# Altium footprint library AUDIO_MIC_SPK.PcbLib: 21 footprints (part 1 of 2)
Each footprint in its own frame and in the unit in brackets; x right, y up, seen from the top. Pads: shape width x height; smd on the part's side, far side on the other; paste and mask are expansions set on the pad; w line width, h text height; cw(c..) or ccw(c..) is an arc to the next point about the centre after c.
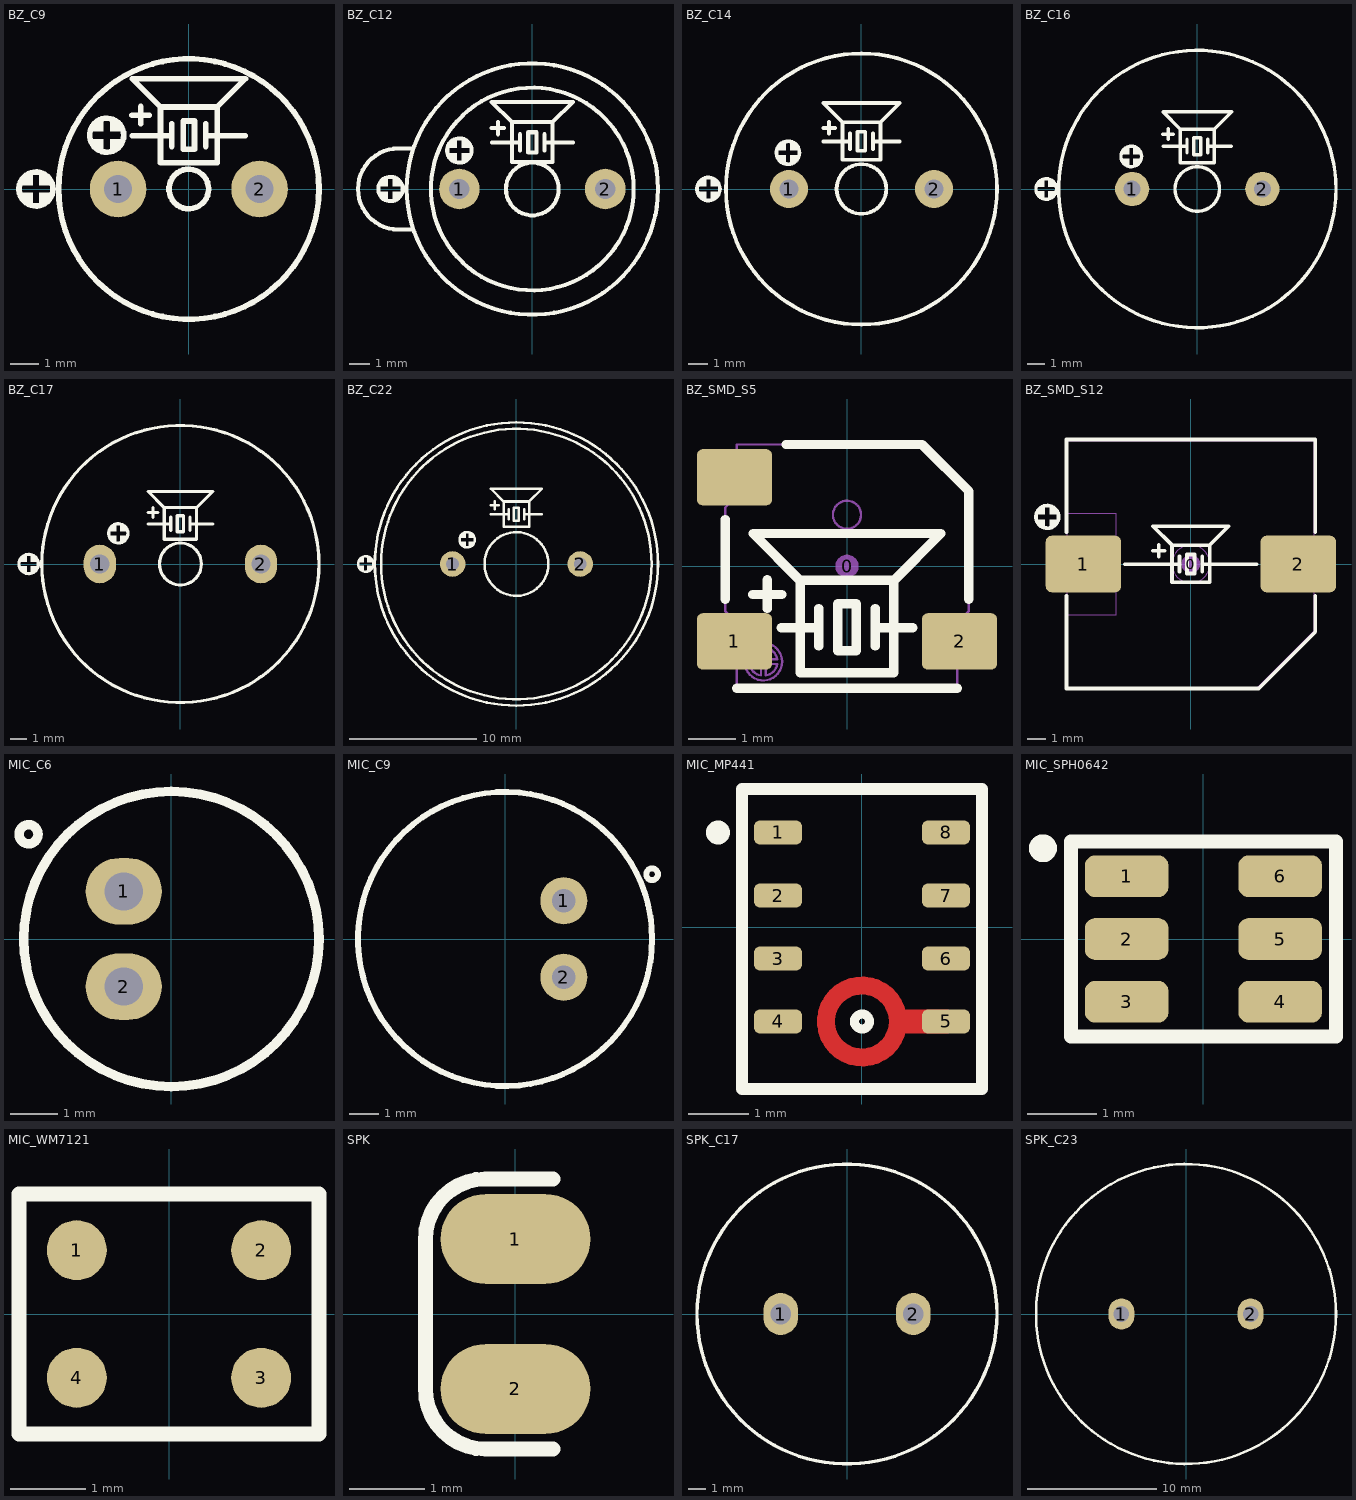
[diagram p0: the footprints below, top view; thin cyan lines are the x and y axes]

## BZ_C9 [mm] "BUZZER 9mm DIA, 7.62mm pitch"
pads (2):
  round 2 hole 1: 1(-2.5,0) 2(2.5,0)
Top Overlay:
  circle w0.2: c-2.9,1.9 r0.6
  circle w0.2: c0,0 r0.7
  circle w0.2: c0,0 r4.6
  circle w0.2: c-5.4,0 r0.6
  rectangle: -3.4,2.027 -3.012,2.4
  rectangle: -3.4,1.4 -3.012,1.773
  region: -2.4,1.773 -2.788,1.773 -2.788,1.4 -2.4,1.4
  region: -2.4,2.4 -2.788,2.4 -2.788,2.027 -2.4,2.027
  region: -4.9,0.5 -5.288,0.5 -5.288,0.127 -4.9,0.127
  region: -4.9,-0.127 -5.288,-0.127 -5.288,-0.5 -4.9,-0.5
  rectangle: -5.9,-0.5 -5.512,-0.127
  rectangle: -5.9,0.127 -5.512,0.5
  lines w0.2: -2.007,2.6 -1.393,2.6 ; -2,1.886 -0.6,1.886 ; -1.7,2.3 -1.7,2.914 ; -0.6,1.5 -0.6,2.3 ; 0.6,1.5 0.6,2.3 ; 0.6,1.886 2,1.886 ; -1,2.9 1,2.9 ; -1,2.9 -1,0.929 1,0.929 1,2.9 ; -1,2.9 -2.002,3.9 2.002,3.9 1,2.9 ; -0.2,1.4 -0.2,2.4 0.2,2.4 0.2,1.4 -0.2,1.4
3D body "User Library-Buzzer_9mm.STEP": height 5.6, standoff -5.4, extent -4.55,-4.55 4.55,4.55

## BZ_C12 [mm] "BUZZER 12mm DIA, 8.5mm Height , 7.62mm pitch"
pads (2):
  round 2 hole 1: 1(-3.6,0) 2(3.6,0)
Top Overlay:
  circle w0.2: c-7,0 r0.6
  circle w0.2: c0,0 r6.2
  circle w0.2: c0,0 r5
  circle w0.2: c0,0 r1.3
  circle w0.2: c-3.6,1.9 r0.6
  rectangle: -7.5,0.127 -7.112,0.5
  rectangle: -7.5,-0.5 -7.112,-0.127
  region: -6.5,-0.127 -6.888,-0.127 -6.888,-0.5 -6.5,-0.5
  region: -6.5,0.5 -6.888,0.5 -6.888,0.127 -6.5,0.127
  region: -3.1,2.4 -3.488,2.4 -3.488,2.027 -3.1,2.027
  region: -3.1,1.773 -3.488,1.773 -3.488,1.4 -3.1,1.4
  rectangle: -4.1,1.4 -3.712,1.773
  rectangle: -4.1,2.027 -3.712,2.4
  lines w0.2: -5.9,-2 -6.6,-2 cw(c-6.6,0) -6.6,2 -5.9,2 ; -2.007,3 -1.393,3 ; -2,2.286 -0.6,2.286 ; -1.7,2.7 -1.7,3.314 ; -0.6,1.9 -0.6,2.7 ; 0.6,1.9 0.6,2.7 ; 0.6,2.286 2,2.286 ; -1,3.3 -2.002,4.3 2.002,4.3 1,3.3 ; -1,3.3 -1,1.329 1,1.329 1,3.3 ; -1,3.3 1,3.3 ; -0.2,1.8 0.2,1.8 0.2,2.8 -0.2,2.8 -0.2,1.8
3D body "User Library-Buzzer CEM-1205C.step": height 9.5, standoff -3.5, extent -6,-5.997 6,5.997

## BZ_C14 [mm] "BUZZER 14mm DIA, 6mm Height , 7.62mm pitch"
pads (2):
  round 2 hole 1: 1(-3.8,0) 2(3.8,0)
Top Overlay:
  circle w0.2: c-3.854,1.9 r0.6
  circle w0.2: c0,0 r1.3
  circle w0.2: c0,0 r7.1
  circle w0.2: c-8.016,0 r0.6
  rectangle: -4.354,2.027 -3.966,2.4
  rectangle: -4.354,1.4 -3.966,1.773
  region: -3.354,1.773 -3.742,1.773 -3.742,1.4 -3.354,1.4
  region: -3.354,2.4 -3.742,2.4 -3.742,2.027 -3.354,2.027
  region: -7.516,0.5 -7.904,0.5 -7.904,0.127 -7.516,0.127
  region: -7.516,-0.127 -7.904,-0.127 -7.904,-0.5 -7.516,-0.5
  rectangle: -8.516,-0.5 -8.128,-0.127
  rectangle: -8.516,0.127 -8.128,0.5
  lines w0.2: -2.007,3.2 -1.393,3.2 ; -2,2.486 -0.6,2.486 ; -1.7,2.9 -1.7,3.514 ; -0.6,2.1 -0.6,2.9 ; 0.6,2.1 0.6,2.9 ; 0.6,2.486 2,2.486 ; -1,3.5 1,3.5 ; -1,3.5 -1,1.529 1,1.529 1,3.5 ; -1,3.5 -2.002,4.5 2.002,4.5 1,3.5 ; -0.2,2 -0.2,3 0.2,3 0.2,2 -0.2,2
3D body "User Library-Buzzer14mm.step": height 7.35, standoff -3.1, extent -7,-7 7,7

## BZ_C16 [mm] "BUZZER 16mm DIA, 14mm Height , 7.62mm pitch"
pads (2):
  round 2 hole 1: 1(-3.8,0) 2(3.8,0)
Top Overlay:
  circle w0.2: c-8.816,0 r0.6
  circle w0.2: c0,0 r8.1
  circle w0.2: c0,0 r1.3
  circle w0.2: c-3.854,1.9 r0.6
  rectangle: -9.316,0.127 -8.928,0.5
  rectangle: -9.316,-0.5 -8.928,-0.127
  region: -8.316,-0.127 -8.704,-0.127 -8.704,-0.5 -8.316,-0.5
  region: -8.316,0.5 -8.704,0.5 -8.704,0.127 -8.316,0.127
  region: -3.354,2.4 -3.742,2.4 -3.742,2.027 -3.354,2.027
  region: -3.354,1.773 -3.742,1.773 -3.742,1.4 -3.354,1.4
  rectangle: -4.354,1.4 -3.966,1.773
  rectangle: -4.354,2.027 -3.966,2.4
  lines w0.2: -2.007,3.2 -1.393,3.2 ; -2,2.486 -0.6,2.486 ; -1.7,2.9 -1.7,3.514 ; -0.6,2.1 -0.6,2.9 ; 0.6,2.1 0.6,2.9 ; 0.6,2.486 2,2.486 ; -1,3.5 -2.002,4.5 2.002,4.5 1,3.5 ; -1,3.5 -1,1.529 1,1.529 1,3.5 ; -1,3.5 1,3.5 ; -0.2,2 0.2,2 0.2,3 -0.2,3 -0.2,2
3D body "CMT-1614C-120.stp": height 13.5, standoff -7.5, extent -7.996,-8 8,8

## BZ_C17 [mm] "BUZZER 17mm DIA, 4.6mm Height , 10mm pitch"
pads (2):
  oval 2x2.4 hole 1.2: 1(-5,0) 2(5,0)
Top Overlay:
  circle w0.2: c-3.854,1.9 r0.6
  circle w0.2: c0,0 r1.3
  circle w0.2: c0,0 r8.6
  circle w0.2: c-9.416,0 r0.6
  rectangle: -4.354,2.027 -3.966,2.4
  rectangle: -4.354,1.4 -3.966,1.773
  region: -3.354,1.773 -3.742,1.773 -3.742,1.4 -3.354,1.4
  region: -3.354,2.4 -3.742,2.4 -3.742,2.027 -3.354,2.027
  region: -8.916,0.5 -9.304,0.5 -9.304,0.127 -8.916,0.127
  region: -8.916,-0.127 -9.304,-0.127 -9.304,-0.5 -8.916,-0.5
  rectangle: -9.916,-0.5 -9.528,-0.127
  rectangle: -9.916,0.127 -9.528,0.5
  lines w0.2: -2.007,3.2 -1.393,3.2 ; -2,2.486 -0.6,2.486 ; -1.7,2.9 -1.7,3.514 ; -0.6,2.1 -0.6,2.9 ; 0.6,2.1 0.6,2.9 ; 0.6,2.486 2,2.486 ; -1,3.5 1,3.5 ; -1,3.5 -1,1.529 1,1.529 1,3.5 ; -1,3.5 -2.002,4.5 2.002,4.5 1,3.5 ; -0.2,2 -0.2,3 0.2,3 0.2,2 -0.2,2
3D body "CEP-1153.stp": height 7.7, standoff -3.4, extent -8.5,-8.5 8.5,8.5

## BZ_C22 [mm] "BUZZER, BUZZER 22mm DIA,"
pads (2):
  round 2 hole 1: 1(-5,0) 2(5,0)
Top Overlay:
  circle w0.2: c0,0 r2.5
  circle w0.2: c0,0 r10.6
  circle w0.2: c0,0 r11.1
  circle w0.2: c-3.854,1.9 r0.6
  circle w0.2: c-11.816,0 r0.6
  rectangle: -4.354,2.027 -3.966,2.4
  rectangle: -4.354,1.4 -3.966,1.773
  region: -3.354,1.773 -3.742,1.773 -3.742,1.4 -3.354,1.4
  region: -3.354,2.4 -3.742,2.4 -3.742,2.027 -3.354,2.027
  region: -11.316,0.5 -11.704,0.5 -11.704,0.127 -11.316,0.127
  region: -11.316,-0.127 -11.704,-0.127 -11.704,-0.5 -11.316,-0.5
  rectangle: -12.316,-0.5 -11.928,-0.127
  rectangle: -12.316,0.127 -11.928,0.5
  lines w0.2: -2.007,4.6 -1.393,4.6 ; -2,3.886 -0.6,3.886 ; -1.7,4.3 -1.7,4.914 ; -0.6,3.5 -0.6,4.3 ; 0.6,3.5 0.6,4.3 ; 0.6,3.886 2,3.886 ; -1,4.9 1,4.9 ; -1,4.9 -1,2.929 1,2.929 1,4.9 ; -1,4.9 -2.002,5.9 2.002,5.9 1,4.9 ; -0.2,3.4 -0.2,4.4 0.2,4.4 0.2,3.4 -0.2,3.4
3D body "User Library-PKM22EPP-4001.step": height 8.9, standoff -1.8, extent -11,-11 11,11

## BZ_SMD_S5 [mm] "Buzzer SMD sealed 5.0 L x 5.0 W x 2.0mm H 5Vp"
height 2.2
pads (4):
  round 0.5 on Mech15: 0(0,0)
  rrect20% 1.6x1.2 smd: 1(-2.4,-1.6) 2(2.4,-1.6) ""(-2.4,1.9)
Top Overlay:
  lines w0.2: -2.6,-0.7 -2.6,1 ; -2.35,-2.6 2.35,-2.6 ; -2.007,-0.6 -1.393,-0.6 ; -1.7,-0.9 -1.7,-0.286 ; -1.4,-1.314 -0.6,-1.314 ; -1.3,2.6 1.6,2.6 2.6,1.6 2.6,-0.7 ; -0.6,-1.7 -0.6,-0.9 ; 0.6,-1.7 0.6,-0.9 ; 0.6,-1.314 1.4,-1.314 ; -1,-0.3 1,-0.3 ; -1,-0.3 -1,-2.271 1,-2.271 1,-0.3 ; -1,-0.3 -2.002,0.7 2.002,0.7 1,-0.3 ; -0.2,-1.8 -0.2,-0.8 0.2,-0.8 0.2,-1.8 -0.2,-1.8
Mechanical 13:
  circle w0.05: c0,1.1 r0.3
  circle w0.05: c-1.784,-2.034 r0.4
  lines w0.05: -2.65,-1.95 -2.65,-1.25 ; -2.65,1.55 -2.65,2.25 ; -2.35,-1.95 -2.75,-1.95 -2.75,-1.25 -2.35,-1.25 ; -2.35,1.55 -2.75,1.55 -2.75,2.25 -2.35,2.25 ; 2.35,-1.95 2.75,-1.95 2.75,-1.25 2.35,-1.25 ; 2.65,-1.95 2.65,-1.25 ; -2.6,-0.95 -2.6,1.25 -2.35,1.5 -2.35,2.6 1.6,2.6 2.6,1.6 2.6,-0.95 2.35,-1.2 2.35,-2.6 -2.35,-2.6 -2.35,-1.2 -2.6,-0.95 ; -2.08,-2.084 ccw(c-1.784,-2.034) -1.834,-2.33 -1.834,-2.084 -2.08,-2.084 ; -2.08,-1.984 cw(c-1.784,-2.034) -1.834,-1.739 -1.834,-1.984 -2.08,-1.984 ; -1.734,-2.33 ccw(c-1.784,-2.034) -1.489,-2.084 -1.734,-2.084 -1.734,-2.33 ; -1.734,-1.984 -1.489,-1.984 ccw(c-1.784,-2.034) -1.734,-1.739 -1.734,-1.984
3D body "Buzzer SMT28 series.STEP": height 2, standoff 0, extent -2.75,-2.6 2.75,2.6

## BZ_SMD_S12 [mm] "Buzzer SMD sealed 12.8 L x 12.8 W x 7.6mm H 5Vp, CT-1205-SMT"
height 7.6
pads (3):
  round 1 on Mech15: 0(0,0)
  rrect20% 4x3 smd: 1(-5.7,0) 2(5.7,0)
Top Overlay:
  circle w0.2: c-7.616,2.5 r0.6
  rectangle: -8.116,2.627 -7.728,3
  rectangle: -8.116,2 -7.728,2.373
  region: -7.116,2.373 -7.504,2.373 -7.504,2 -7.116,2
  region: -7.116,3 -7.504,3 -7.504,2.627 -7.116,2.627
  lines w0.2: -6.6,-1.7 -6.6,-6.6 3.6,-6.6 6.6,-3.6 6.6,-1.7 ; -6.6,1.7 -6.6,6.6 6.6,6.6 6.6,1.7 ; -3.5,-0.014 -0.6,-0.014 ; -2.007,0.7 -1.393,0.7 ; -1.7,0.4 -1.7,1.014 ; -0.6,-0.4 -0.6,0.4 ; 0.6,-0.4 0.6,0.4 ; 0.6,-0.014 3.5,-0.014 ; -1,1 -2.002,2 2.002,2 1,1 ; -1,1 -1,-0.971 1,-0.971 1,1 ; -1,1 1,1 ; -0.2,-0.5 0.2,-0.5 0.2,0.5 -0.2,0.5 -0.2,-0.5
Mechanical 13:
  circle w0.05: c0,0 r1
  lines w0.05: -6.65,-1.15 -6.65,1.15 ; -6.55,-2.7 -3.95,-2.7 -3.95,2.7 -6.55,2.7 ; -6.55,-1.15 -7.15,-1.15 -7.15,1.15 -6.55,1.15 ; 6.55,-1.15 7.15,-1.15 7.15,1.15 6.55,1.15 ; 6.65,-1.15 6.65,1.15 ; -6.55,-6.55 -6.55,6.55 6.55,6.55 6.55,-3.55 3.55,-6.55 -6.55,-6.55
3D body "CT-1205-SMT.STEP": height 7.6, standoff 0, extent -7.15,-6.55 7.15,6.55

## MIC_C6 [mm] "MIC, WM-63PR, POM-3535P-3-R"
height 2.2
pads (2):
  oval 1.6x1.4 hole 0.8: 1(-1,1) 2(-1,-1)
Top Overlay:
  circle w0.2: c0,0 r3.1
  circle w0.2: c-3,2.2 r0.2
3D body "CMC-2242PBL-A.stp": height 2.4, standoff -2.8, extent -3,-3 3,3

## MIC_C9 [mm] "MIC, WM52BM, 9.7mm"
height 3
pads (2):
  round 1.6 hole 0.8: 1(2,1.3) 2(2,-1.3)
Top Overlay:
  circle w0.2: c0,0 r5
  circle w0.2: c5,2.2 r0.2
3D body "User Library-Panasonic_Microphone_WM52BM.STEP": height 5.15, standoff -4.02, extent -4.85,-4.85 4.85,4.85

## MIC_MP441 [mm] "MIC, 8-LEADS, 4.7X3.7mm, INMP441, ADMP441, LGA_CAV"
height 1
pads (8):
  rrect50% 0.8x0.4 smd: 1(-1.4,1.575) 2(-1.4,0.525) 3(-1.4,-0.525) 4(-1.4,-1.575) 5(1.4,-1.575) 6(1.4,-0.525) 7(1.4,0.525) 8(1.4,1.575)
Top Layer:
  circle w0.3: c0,-1.575 r0.6
  lines w0.4: 0.7,-1.575 1.4,-1.575
Top Overlay:
  circle w0.2: c-2.4,1.575 r0.1
  circle w0.15: c0,-1.575 r0.125
  lines w0.2: -2,-2.7 -2,2.3 2,2.3 2,-2.7 -2,-2.7
Top Paste:
  lines w0.3: 0.52,-1.875 cw(c0,-1.575) 0.52,-1.275
Top Solder:
  circle w0.35: c0,-1.575 r0.6
3D body "User Library-inmp441_b.step": height 1.05, standoff 0, extent -1.93,-2.645 1.93,2.175

## MIC_SPH0642 [mm] "SPH0642HT5H-1 Knowles MIC-MEMS 6-LEADS, 3.5X2.65mm"
height 1
pads (6):
  rrect50% 1.2x0.6 smd: 1(-1.1,0.9) 2(-1.1,0) 3(-1.1,-0.9) 4(1.1,-0.9) 5(1.1,0) 6(1.1,0.9)
Top Overlay:
  circle w0.2: c-2.3,1.3 r0.1
  lines w0.2: -1.9,-1.4 1.9,-1.4 1.9,1.4 -1.9,1.4 -1.9,-1.4
3D body: height 1.02, standoff 0, extent -1.1,-0.3 -0.5,0.3
3D body: height 1.01, standoff 0, extent -1.3,-0.5 -0.3,0.5
3D body: height 1, standoff 0.01, extent -1.8,-1.325 1.8,1.325

## MIC_WM7121 [mm] "MICROPHONE, WM7121"
pads (4):
  round 0.8 smd mask+0.102: 1(-1.23,0.85) 2(1.23,0.85) 3(1.23,-0.85) 4(-1.23,-0.85)
Top Overlay:
  lines w0.2: -2,-1.6 2,-1.6 2,1.6 -2,1.6 -2,-1.6
3D body "User Library-WM7121PE.step": height 1.1, standoff 0, extent -1.88,-1.475 1.88,1.475

## SPK [mm]
pads (2):
  oval 2x1.2 smd mask+0.075: 1(0,1) 2(0,-1)
Top Overlay:
  lines w0.2: 0.5,-1.8 -0.4,-1.8 cw(c-0.4,-1) -1.2,-1 -1.2,1 cw(c-0.4,1) -0.4,1.8 0.5,1.8

## SPK_C17 [mm] "SPEAKER, CVS-1708 17mm DIA"
pads (2):
  oval 2x2.4 hole 1.2: 1(-3.8,0) 2(3.8,0)
Top Overlay:
  circle w0.2: c0,0 r8.6
3D body "CVS-1708.stp": height 8.7, standoff -5.7, extent -8.5,-9.5 8.5,8.5

## SPK_C23 [mm] "SPEAKER, CVS-2308 23mm DIA"
pads (2):
  oval 2x2.4 hole 1.2: 1(-5,0) 2(5,0)
Top Overlay:
  circle w0.2: c0,0 r11.6
3D body "CVS-2308.stp": height 9.1, standoff -5.8, extent -11.5,-12.5 11.5,11.5